# Altium footprint library WtB_3_connector.PcbLib: 1 footprints
Each footprint in its own frame and in the unit in brackets; x right, y up, seen from the top. Pads: shape width x height; smd on the part's side, far side on the other; paste and mask are expansions set on the pad; w line width, h text height; cw(c..) or ccw(c..) is an arc to the next point about the centre after c.
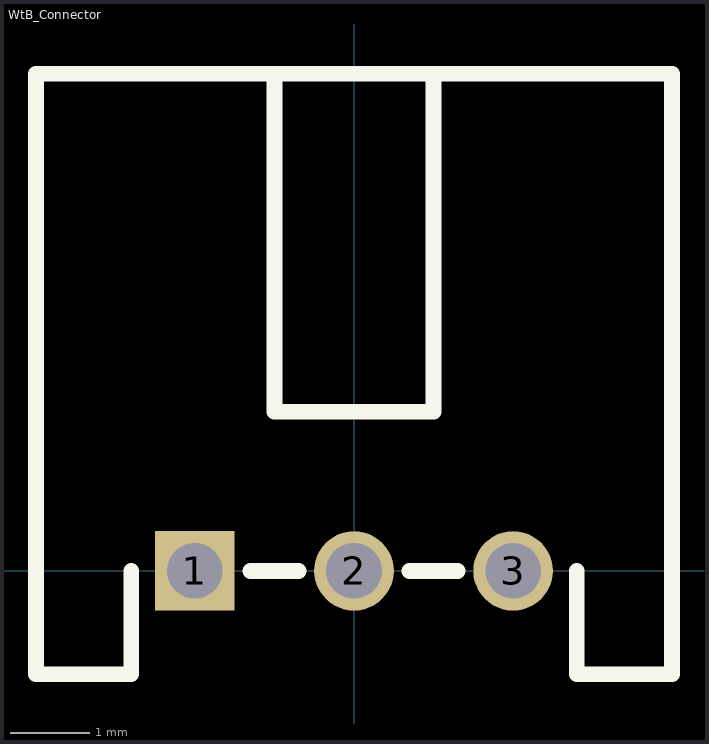
[diagram p0: the footprint, top view; thin cyan lines are the x and y axes]

## WtB_Connector [mm] "wire to board connector"
pads (3):
  rect 1x1 hole 0.7: 1(-2,0)
  round 1 hole 0.7: 2(0,0) 3(2,0)
Top Overlay:
  lines w0.2: -4,6.2 -4,0 -4,-1 -4,-1.3 -2.8,-1.3 -2.8,0 ; -4,6.25 4,6.25 ; -1.3,0 -0.7,0 ; -1,6.2 -1,2 1,2 1,6.2 ; 0.7,0 1.3,0 ; 2.8,0 2.8,-1.3 4,-1.3 4,-1 4,0 4,6.2